# EAGLE library part SENSOR-GAS-MQ (library Discrete)
314100003 MQ-2; 314100007 MQ-3; 314100000 MQ-5; 314100008 MQ-9; 314100006 MQ303B;
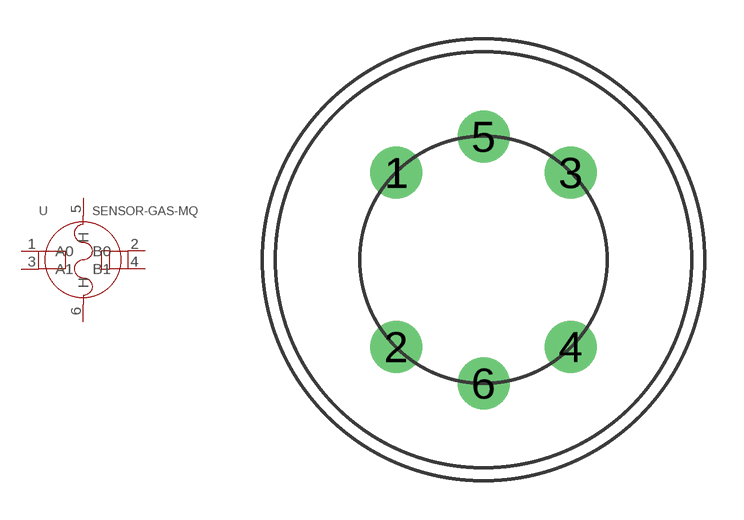
[diagram p4: symbol with the pads of 6P-ROUND-D19.0MM; footprint 6P-ROUND-D19.0MM]

Designator prefix U

## SENSOR-GAS-MQ  [6P-ROUND-D19.0MM]
1  A0
2  B0
3  A1
4  B1
5  H
6  H

## Footprint 6P-ROUND-D19.0MM (pad centres in mm)
drill 1.3 pad 2: 1 -3.355,3.355; 2 -3.355,-3.355; 3 3.355,3.355; 4 3.355,-3.355; 5 0,4.75; 6 0,-4.75